# Altium schematic symbol library SCH_Mechanics.SchLib: 1 symbol
Pins are listed as number, name and electrical type; pins without a type are passive.

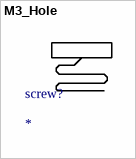
[diagram p0: symbol M3_Hole]

## M3_Hole
designator screw?
A screw in Sch
footprint M3_Hole (A hole for screw that size is M3 (3mm))